# Altium schematic symbol library M20-9950645.SchLib: 1 symbol
Pins are listed as number, name and electrical type; pins without a type are passive.

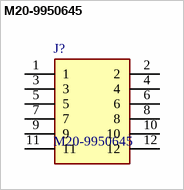
[diagram p0: symbol M20-9950645]

## M20-9950645
designator J?
M20: 6+6 Pos Plug DIL Right-Angle 3mm THT Connector 6.1mm pin Gold; Manufacturer_Name: Harwin; Geometry.Height: 5.08mm; Mouser Part Number: 855-M20-9950645; Mouser Price/Stock: https://www.mouser.co.uk/ProductDetail/Harwin/M20-9950645?qs=WS5Jv%252B%252Bx1qVrnrdlGO%252BcnA%3D%3D; Manufacturer_Part_Number: M20-9950645; Datasheet Link: https://content.harwin.com/m/2bbbbcb217f49919/original/DRG-00474-Technical-Drawing-Datasheet-M20-995-pdf.pdf
footprint HDRRA12W66P254_2X6_1524X254X508P
pins: 1, 2, 3, 4, 5, 6, 7, 8, 9, 10, 11, 12